# Altium footprint library SHOUHAN.PcbLib: 1 footprints
Each footprint in its own frame and in the unit in brackets; x right, y up, seen from the top. Pads: shape width x height; smd on the part's side, far side on the other; paste and mask are expansions set on the pad; w line width, h text height; cw(c..) or ccw(c..) is an arc to the next point about the centre after c.
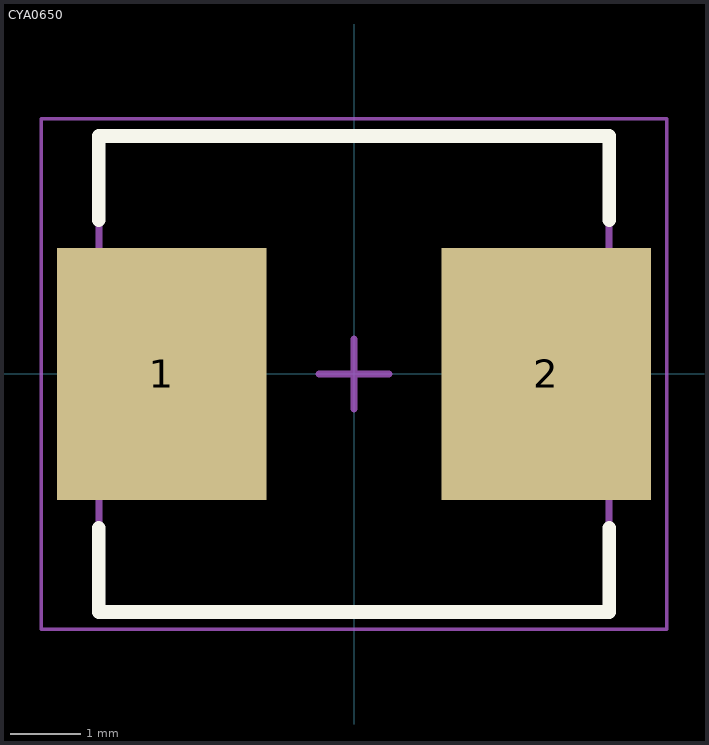
[diagram p0: the footprint, top view; thin cyan lines are the x and y axes]

## CYA0650 [mm] "Precision Wire Wound Inductor, 2-Leads, Body 7.00x6.60mm, IPC Medium Density"
height 5
pads (2):
  rect 3x3.6 smd: 1(-2.75,0) 2(2.75,0)
Top Overlay:
  lines w0.2: -3.65,-2.2 -3.65,-3.4 3.65,-3.4 3.65,-2.2 ; -3.65,2.2 -3.65,3.4 3.65,3.4 3.65,2.2
Top Designator:
  text ".Designator" at -5.998,-0.4 h1.2
Mechanical 13:
  lines w0.1: -3.65,-3.4 -3.65,3.4 3.65,3.4 3.65,-3.4 -3.65,-3.4
Mechanical 15:
  lines w0.05: -4.475,-3.65 -4.475,3.65 4.475,3.65 4.475,-3.65 -4.475,-3.65
  lines w0.1: -0.5,0 0.5,0 ; 0,-0.5 0,0.5
3D body "CIP0650.step": height 5.2, standoff 0, extent -3.8,-3.375 3.8,3.375